# Altium schematic symbol library zekering1.SchLib: 2 symbols
Pins are listed as number, name and electrical type; pins without a type are passive.

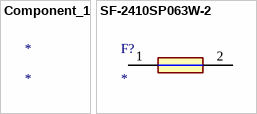
[diagram p0: symbols Component_1 to SF-2410SP063W-2]

## Component_1
designator *

## SF-2410SP063W-2
designator F?
Fuse; Manufacturer_Name: Bourns; Manufacturer_Part_Number: SF-2410SP063W-2; Description: Surface Mount Fuses 0.63A Time Lag 2410 SinglFuse; Datasheet Link: https://www.bourns.com/docs/Product-Datasheets/SF-2410SPxxxW.pdf; Height: 2.36mm
footprint FUSC6125X236N
pins: 1, 2